# Altium footprint library ESP32-HWE-Dev1.PcbLib: 15 footprints
Each footprint in its own frame and in the unit in brackets; x right, y up, seen from the top. Pads: shape width x height; smd on the part's side, far side on the other; paste and mask are expansions set on the pad; w line width, h text height; cw(c..) or ccw(c..) is an arc to the next point about the centre after c.
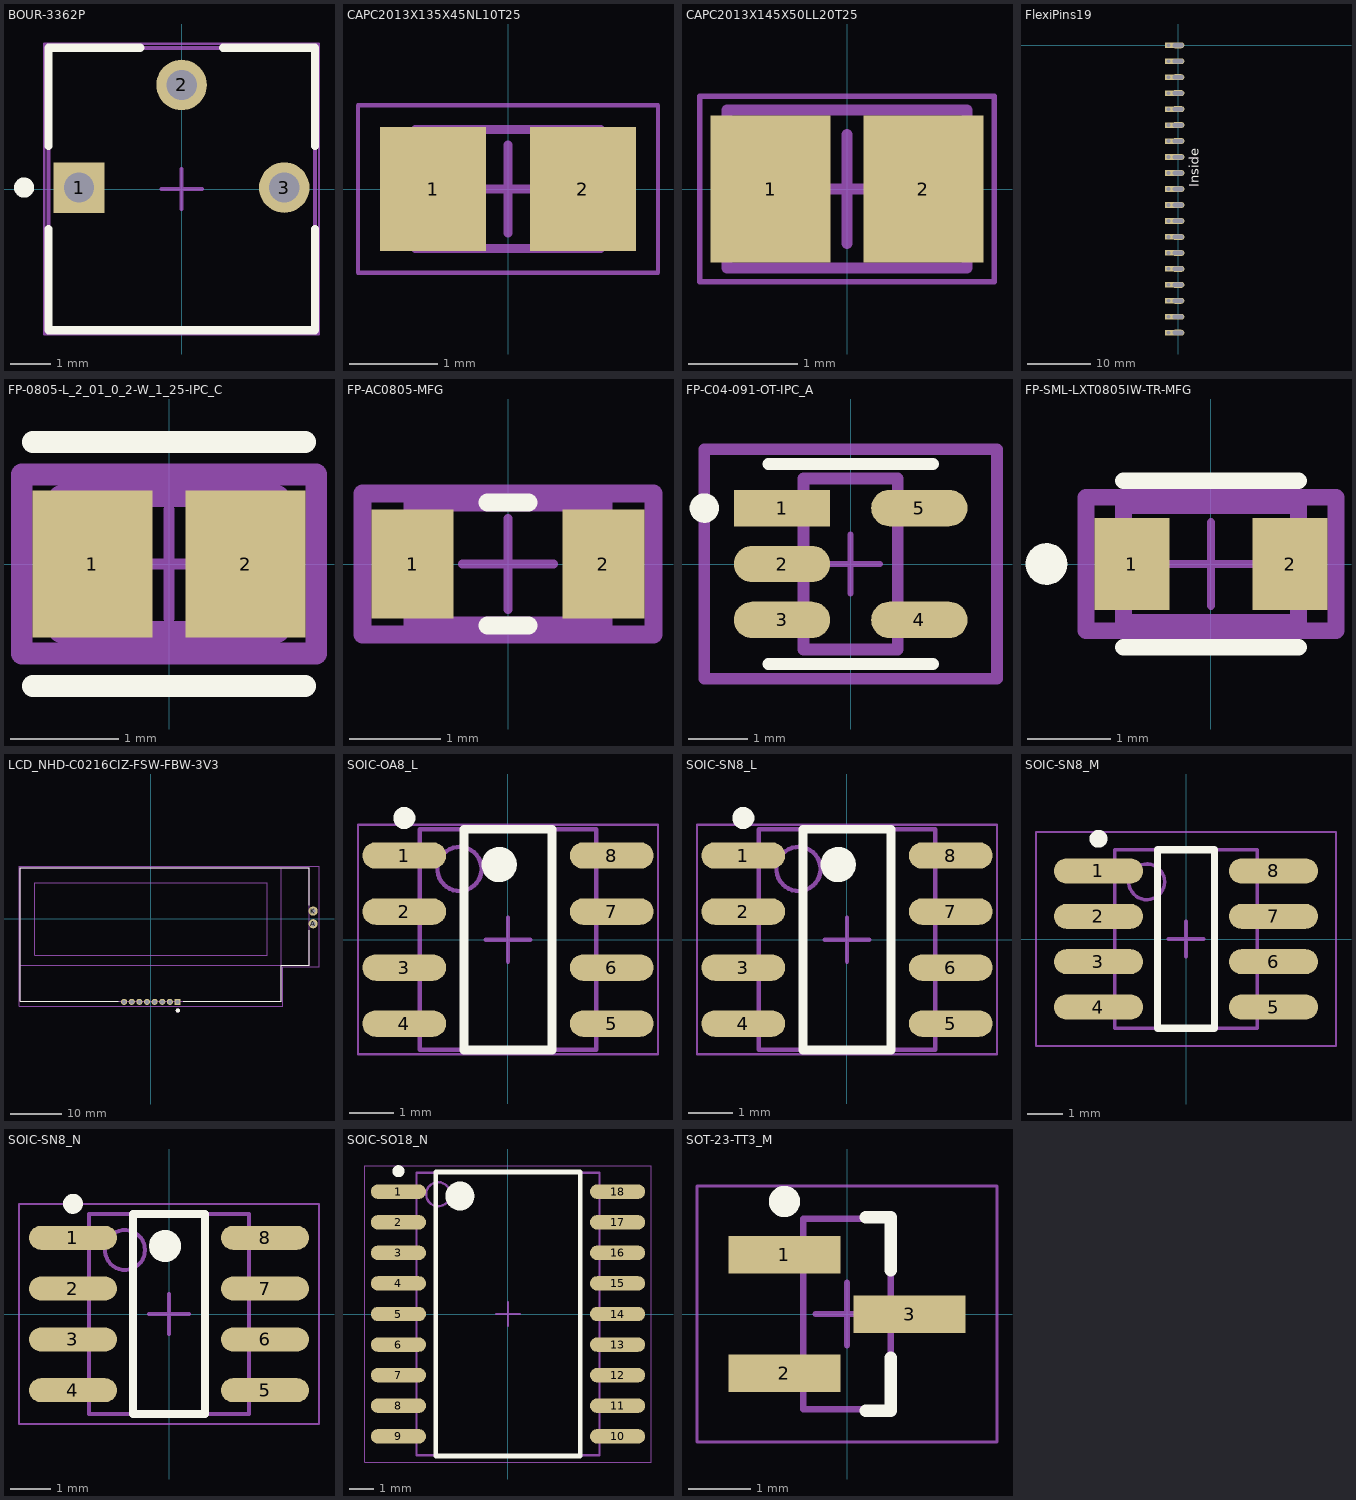
[diagram p0: the footprints below, top view; thin cyan lines are the x and y axes]

## BOUR-3362P [mm]
pads (3):
  rect 1.25x1.25 hole 0.75: 1(-2.54,0.035)
  round 1.25 hole 0.75: 2(0,2.575) 3(2.54,0.035)
Top Overlay:
  circle w0.25: c-3.9,0.035 r0.125
  lines w0.2: -3.3,-0.99 -3.3,-3.495 3.3,-3.495 3.3,-0.99 ; -3.3,1.06 -3.3,3.495 -1.025,3.495 ; 1.025,3.495 3.3,3.495 3.3,1.06
Top 3D Body:
  lines w0.1: -3.3,-3.495 -3.3,3.495 3.3,3.495 3.3,-3.495 -3.3,-3.495
Top Courtyard:
  lines w0.05: -3.4,-3.595 3.4,-3.595 3.4,3.595 -3.4,3.595 -3.4,-3.595
  lines w0.1: -0.5,0 0.5,0 ; 0,-0.5 0,0.5
3D body: height 4.95, standoff 0, extent -3.299,-3.494 3.299,3.494

## CAPC2013X135X45NL10T25 [mm]
pads (2):
  rect 1.2x1.4 smd: 1(-0.85,0) 2(0.85,0)
Top 3D Body:
  lines w0.1: -1.05,-0.675 1.05,-0.675 1.05,0.675 -1.05,0.675 -1.05,-0.675
Top Courtyard:
  lines w0.05: -1.7,-0.95 1.7,-0.95 1.7,0.95 -1.7,0.95 -1.7,-0.95
  lines w0.1: -0.5,0 0.5,0 ; 0,-0.5 0,0.5
3D body "CAPC2012X14N.step": height 1.35, standoff 0, extent -1.05,-0.675 1.05,0.675

## CAPC2013X145X50LL20T25 [mm]
pads (2):
  rect 1.1x1.35 smd: 1(-0.7,0) 2(0.7,0)
Top 3D Body:
  lines w0.1: -1.1,-0.725 1.1,-0.725 1.1,0.725 -1.1,0.725 -1.1,-0.725
Top Courtyard:
  lines w0.05: -1.35,-0.85 1.35,-0.85 1.35,0.85 -1.35,0.85 -1.35,-0.85
  lines w0.1: -0.5,0 0.5,0 ; 0,-0.5 0,0.5
3D body: height 1.45, standoff 0, extent 0.6,-0.725 1.1,0.725
3D body: height 1.45, standoff 0, extent -1.1,-0.725 -0.6,0.725
3D body: height 1.45, standoff 0, extent -0.6,-0.725 0.6,0.725

## FlexiPins19 [mm]
pads (38):
  rect 1.5x0.9 hole 0.6 copper offset 0.2,0: 1(-1.55,0) 2(-1.55,-2.54) 3(-1.55,-5.08) 4(-1.55,-7.62) 5(-1.55,-10.16) 6(-1.55,-12.7) 7(-1.55,-15.24) 8(-1.55,-17.78) 9(-1.55,-20.32) 10(-1.55,-22.86) 11(-1.55,-25.4) 12(-1.55,-27.94) 13(-1.55,-30.48) 14(-1.55,-33.02) 15(-1.55,-35.56) 16(-1.55,-38.1) 17(-1.55,-40.64) 18(-1.55,-43.18) 19(-1.55,-45.72)
  oval 2x0.95 hole 0.65 slot 1.7 at 0 deg: 1(0,0) 2(0,-2.54) 3(0,-5.08) 4(0,-7.62) 5(0,-10.16) 6(0,-12.7) 7(0,-15.24) 8(0,-17.78) 9(0,-20.32) 10(0,-22.86) 11(0,-25.4) 12(0,-27.94) 13(0,-30.48) 14(0,-33.02) 15(0,-35.56) 16(0,-38.1) 17(0,-40.64) 18(0,-43.18) 19(0,-45.72)
Top Overlay:
  text "Inside" at 3.276,-22.606 h1.52
3D body "flexypin.step": height 4.07, standoff -6.32, extent -3.593,-0.2 0.872,0.2
3D body "flexypin.step": height 4.07, standoff -6.32, extent -3.593,-2.74 0.872,-2.34
3D body "flexypin.step": height 4.07, standoff -6.32, extent -3.593,-5.28 0.872,-4.88
3D body "flexypin.step": height 4.07, standoff -6.32, extent -3.593,-7.82 0.872,-7.42
3D body "flexypin.step": height 4.07, standoff -6.32, extent -3.593,-10.36 0.872,-9.96
3D body "flexypin.step": height 4.07, standoff -6.32, extent -3.593,-12.9 0.872,-12.5
3D body "flexypin.step": height 4.07, standoff -6.32, extent -3.593,-15.44 0.872,-15.04
3D body "flexypin.step": height 4.07, standoff -6.32, extent -3.593,-17.98 0.872,-17.58
3D body "flexypin.step": height 4.07, standoff -6.32, extent -3.593,-20.52 0.872,-20.12
3D body "flexypin.step": height 4.07, standoff -6.32, extent -3.593,-23.06 0.872,-22.66
3D body "flexypin.step": height 4.07, standoff -6.32, extent -3.593,-25.6 0.872,-25.2
3D body "flexypin.step": height 4.07, standoff -6.32, extent -3.593,-28.14 0.872,-27.74
3D body "flexypin.step": height 4.07, standoff -6.32, extent -3.593,-30.68 0.872,-30.28
3D body "flexypin.step": height 4.07, standoff -6.32, extent -3.593,-33.22 0.872,-32.82
3D body "flexypin.step": height 4.07, standoff -6.32, extent -3.593,-35.76 0.872,-35.36
3D body "flexypin.step": height 4.07, standoff -6.32, extent -3.593,-38.3 0.872,-37.9
3D body "flexypin.step": height 4.07, standoff -6.32, extent -3.593,-40.84 0.872,-40.44
3D body "flexypin.step": height 4.07, standoff -6.32, extent -3.593,-43.38 0.872,-42.98
3D body "flexypin.step": height 4.07, standoff -6.32, extent -3.593,-45.92 0.872,-45.52

## FP-0805-L_2_01_0_2-W_1_25-IPC_C [mm]
pads (2):
  rect 1.105x1.356 smd paste+0 mask+0: 1(-0.706,0) 2(0.706,0)
Top Overlay:
  lines w0.2: -1.258,-1.125 1.258,-1.125 ; -1.258,1.125 1.258,1.125
Top Assembly:
  lines w0.2: -1.358,-0.825 -1.358,0.825 1.358,0.825 1.358,-0.825 -1.358,-0.825
  text ".Designator" at 0,0.188 h1
Top 3D Body:
  lines w0.2: -1.005,-0.625 -1.005,0.625 1.005,0.625 1.005,-0.625 -1.005,-0.625
Top Courtyard:
  lines w0.2: -1.358,-0.825 -1.358,0.825 1.358,0.825 1.358,-0.825 -1.358,-0.825
Top Component Center:
  lines w0.1: -0.5,0 0.5,0 ; 0,-0.5 0,0.5
3D body "Cap_AVX_0805YA0R5BAT2A_eec.STEP": height 0.25, standoff 0, extent -1.358,-0.825 1.358,0.825

## FP-AC0805-MFG [mm]
pads (2):
  rect 0.9x1.2 smd paste+0 mask+0: 1(-1.05,0) 2(1.05,0)
Top Overlay:
  lines w0.2: -0.225,-0.675 0.225,-0.675 ; -0.225,0.675 0.225,0.675
Top Assembly:
  lines w0.2: -1.6,-0.775 -1.6,0.775 1.6,0.775 1.6,-0.775 -1.6,-0.775
  text ".Designator" at 0,0.188 h1
Top 3D Body:
  lines w0.2: -1.05,-0.675 -1.05,0.675 1.05,0.675 1.05,-0.675 -1.05,-0.675
Top Courtyard:
  lines w0.2: -1.6,-0.775 -1.6,0.775 1.6,0.775 1.6,-0.775 -1.6,-0.775
Top Component Center:
  lines w0.1: -0.5,0 0.5,0 ; 0,-0.5 0,0.5
3D body "Res_Yageo_AC0805FR-074R22L_eec.STEP": height 0.25, standoff 0, extent -1.6,-0.775 1.6,0.775

## FP-C04-091-OT-IPC_A [mil]
pads (5):
  rect 64.5x24.33 smd paste+0 mask+0: 1(-45.91,37.4)
  rrect100% 64.5x24.33 smd paste+0 mask+0: 2(-45.91,0) 3(-45.91,-37.4) 4(45.91,-37.4) 5(45.91,37.4)
Top Overlay:
  circle w9.84: c-97.85,37.4 r4.92
  lines w7.87: -55.12,-66.93 55.12,-66.93 ; -55.12,66.93 55.12,66.93
Top Assembly:
  lines w7.87: -97.85,-76.77 97.85,-76.77 97.85,76.77 -97.85,76.77 -97.85,-76.77
  text ".Designator" at 0,7.39 h39.37
Top 3D Body:
  lines w7.87: -31.5,-57.09 31.5,-57.09 31.5,57.09 -31.5,57.09 -31.5,-57.09
Top Courtyard:
  lines w7.87: -97.85,-76.77 97.85,-76.77 97.85,76.77 -97.85,76.77 -97.85,-76.77
Top Component Center:
  lines w3.94: -19.68,0 19.68,0 ; 0,-19.68 0,19.68

## FP-SML-LXT0805IW-TR-MFG [mm]
pads (2):
  rect 0.9x1.1 smd paste+0 mask+0: 1(-0.95,0) 2(0.95,0)
Top Overlay:
  circle w0.25: c-1.975,0 r0.125
  lines w0.2: -1.05,-1 1.05,-1 ; -1.05,1 1.05,1
Top Assembly:
  lines w0.2: -1.5,-0.8 -1.5,0.8 1.5,0.8 1.5,-0.8 -1.5,-0.8
  text ".Designator" at 0,-0.001 h1
Top 3D Body:
  lines w0.2: -1.05,-0.7 -1.05,0.7 1.05,0.7 1.05,-0.7 -1.05,-0.7
Top Courtyard:
  lines w0.2: -1.5,-0.8 -1.5,0.8 1.5,0.8 1.5,-0.8 -1.5,-0.8
Top Component Center:
  lines w0.1: -0.5,0 0.5,0 ; 0,-0.5 0,0.5
3D body "Diode_Lumex_SML-LXT0805IW-TR_eec.STEP": height 0.25, standoff 0, extent -1.5,-0.8 1.5,0.8
3D body "Diode_Lumex_SML-LXT0805IW-TR_eec.STEP": height 0.25, standoff 0, extent -1.5,-0.8 1.5,0.8

## LCD_NHD-C0216CIZ-FSW-FBW-3V3 [mm]
pads (10):
  rect 1.2x1.2 hole 0.8: 1(5.25,-16.3)
  round 1.2 hole 0.8: 2(3.75,-16.3) 3(2.25,-16.3) 4(0.75,-16.3) 5(-0.75,-16.3) 6(-2.25,-16.3) 7(-3.75,-16.3) 8(-5.25,-16.3)
  round 1.8 hole 1: A(31.9,-0.96) K(31.9,1.54)
Top Overlay:
  circle w0.4: c5.3,-18 r0.2
  lines w0.127: -6.35,-16.15 -25.65,-16.15 -25.65,10.05 31.15,10.05 31.15,2.7 ; 6.35,-16.15 25.65,-16.15 25.65,-9.15 31.15,-9.15 31.15,-2.2
Top 3D Body:
  circle w0.4: c5.3,-18 r0.2
  lines w0.127: -25.65,-9.15 -25.65,-16.15 25.65,-16.15 25.65,-9.15 ; -25.65,-9.15 -25.65,10.05 25.65,10.05 ; -25.65,-9.15 25.65,-9.15 ; 25.65,-9.15 31.15,-9.15 31.15,10.05 25.65,10.05 ; 25.65,-9.15 25.65,10.05 ; -22.85,-7.15 -22.85,7.15 22.85,7.15 22.85,-7.15 -22.85,-7.15
Top Courtyard:
  lines w0.05: -25.9,-17.15 -25.9,10.3 33.05,10.3 33.05,-9.4 25.9,-9.4 25.9,-17.15 -25.9,-17.15
3D body "step_temp.STEP": height 6, standoff -4.4, extent -25.65,-13.4 32.15,13.1

## SOIC-OA8_L [mm]
pads (8):
  oval 1.9x0.6 smd: 1(-2.35,1.905) 2(-2.35,0.635) 3(-2.35,-0.635) 4(-2.35,-1.905) 5(2.35,-1.905) 6(2.35,-0.635) 7(2.35,0.635) 8(2.35,1.905)
Top Overlay:
  circle w0.25: c-2.35,2.755 r0.125
  circle w0.4: c-0.2,1.7 r0.2
  lines w0.2: -1,-2.5 -1,2.5 1,2.5 1,-2.5 -1,-2.5
Top 3D Body:
  circle w0.1: c-1.1,1.6 r0.5
  lines w0.1: -2,-2.5 -2,2.5 2,2.5 2,-2.5 -2,-2.5
Top Courtyard:
  lines w0.05: -3.4,-2.6 -3.4,2.6 3.4,2.6 3.4,-2.6 -3.4,-2.6
  lines w0.1: -0.5,0 0.5,0 ; 0,-0.5 0,0.5
3D body: height 1.75, standoff 0.1, extent -2,-2.5 2,2.5

## SOIC-SN8_L [mm]
pads (8):
  oval 1.9x0.6 smd: 1(-2.35,1.905) 2(-2.35,0.635) 3(-2.35,-0.635) 4(-2.35,-1.905) 5(2.35,-1.905) 6(2.35,-0.635) 7(2.35,0.635) 8(2.35,1.905)
Top Overlay:
  circle w0.4: c-0.2,1.7 r0.2
  circle w0.25: c-2.35,2.755 r0.125
  lines w0.2: -1,-2.5 1,-2.5 1,2.5 -1,2.5 -1,-2.5
Top 3D Body:
  circle w0.1: c-1.1,1.6 r0.5
  lines w0.1: -2,-2.5 2,-2.5 2,2.5 -2,2.5 -2,-2.5
Top Courtyard:
  lines w0.05: -3.4,-2.6 3.4,-2.6 3.4,2.6 -3.4,2.6 -3.4,-2.6
  lines w0.1: -0.5,0 0.5,0 ; 0,-0.5 0,0.5
3D body: height 1.75, standoff 0.1, extent -2,-2.5 2,2.5

## SOIC-SN8_M [mm]
pads (8):
  oval 2.5x0.7 smd: 1(-2.45,1.905) 2(-2.45,0.635) 3(-2.45,-0.635) 4(-2.45,-1.905) 5(2.45,-1.905) 6(2.45,-0.635) 7(2.45,0.635) 8(2.45,1.905)
Top Overlay:
  circle w0.25: c-2.45,2.805 r0.125
  lines w0.2: -0.8,-2.5 -0.8,2.5 0.8,2.5 0.8,-2.5 -0.8,-2.5
Top 3D Body:
  circle w0.1: c-1.1,1.6 r0.5
  lines w0.1: -2,-2.5 -2,2.5 2,2.5 2,-2.5 -2,-2.5
Top Courtyard:
  lines w0.05: -4.2,-3 -4.2,3 4.2,3 4.2,-3 -4.2,-3
  lines w0.1: -0.5,0 0.5,0 ; 0,-0.5 0,0.5
3D body: height 1.75, standoff 0.1, extent -2,-2.5 2,2.5

## SOIC-SN8_N [mm]
pads (8):
  oval 2.2x0.6 smd: 1(-2.4,1.905) 2(-2.4,0.635) 3(-2.4,-0.635) 4(-2.4,-1.905) 5(2.4,-1.905) 6(2.4,-0.635) 7(2.4,0.635) 8(2.4,1.905)
Top Overlay:
  circle w0.25: c-2.4,2.755 r0.125
  circle w0.4: c-0.1,1.7 r0.2
  lines w0.2: -0.9,-2.5 -0.9,2.5 0.9,2.5 0.9,-2.5 -0.9,-2.5
Top 3D Body:
  circle w0.1: c-1.1,1.6 r0.5
  lines w0.1: -2,-2.5 -2,2.5 2,2.5 2,-2.5 -2,-2.5
Top Courtyard:
  lines w0.05: -3.75,-2.75 -3.75,2.75 3.75,2.75 3.75,-2.75 -3.75,-2.75
  lines w0.1: -0.5,0 0.5,0 ; 0,-0.5 0,0.5
3D body: height 1.75, standoff 0.1, extent -2,-2.5 2,2.5

## SOIC-SO18_N [mm]
pads (18):
  oval 2.3x0.6 smd: 1(-4.55,5.08) 2(-4.55,3.81) 3(-4.55,2.54) 4(-4.55,1.27) 5(-4.55,0) 6(-4.55,-1.27) 7(-4.55,-2.54) 8(-4.55,-3.81) 9(-4.55,-5.08) 10(4.55,-5.08) 11(4.55,-3.81) 12(4.55,-2.54) 13(4.55,-1.27) 14(4.55,0) 15(4.55,1.27) 16(4.55,2.54) 17(4.55,3.81) 18(4.55,5.08)
Top Overlay:
  circle w0.6: c-2,4.9 r0.3
  circle w0.25: c-4.55,5.93 r0.125
  lines w0.2: -3,-5.9 3,-5.9 3,5.9 -3,5.9 -3,-5.9
Top 3D Body:
  circle w0.1: c-2.9,4.975 r0.5
  lines w0.1: -3.8,-5.875 3.8,-5.875 3.8,5.875 -3.8,5.875 -3.8,-5.875
Top Courtyard:
  lines w0.05: -5.95,-6.15 5.95,-6.15 5.95,6.15 -5.95,6.15 -5.95,-6.15
  lines w0.1: -0.5,0 0.5,0 ; 0,-0.5 0,0.5
3D body: height 2.65, standoff 0.1, extent -3.8,-5.875 3.8,5.875

## SOT-23-TT3_M [mm]
pads (3):
  rect 1.8x0.6 smd: 1(-1,0.95) 2(-1,-0.95) 3(1,0)
Top Overlay:
  circle w0.25: c-1,1.8 r0.125
  lines w0.2: 0.3,-1.55 0.7,-1.55 0.7,-0.7 ; 0.3,1.55 0.7,1.55 0.7,0.7
Top 3D Body:
  lines w0.1: -0.7,-1.525 0.7,-1.525 0.7,1.525 -0.7,1.525 -0.7,-1.525
Top Courtyard:
  lines w0.05: -2.4,-2.05 2.4,-2.05 2.4,2.05 -2.4,2.05 -2.4,-2.05
  lines w0.1: -0.5,0 0.5,0 ; 0,-0.5 0,0.5
3D body: height 1.12, standoff 0.01, extent -0.7,-1.525 0.7,1.525